# EAGLE library part 645010114822 (library Wire-to-Board (rev18a))
WR-WTB 3.96mm Male Locking Header, 10 Pins=>Code : Con_WTB_3.96_PCB_THT_645010114822 <http://katalog.we-online.de/media/thumbs2/eican/thb_Con_WTB_3.96_PCB_THT_6450xx114822_pf2.jpg> Details see: http://katalog.we-online.de/en/em/WTB_3_96_MALE_LOCKING_HEADER_6450XX114822 Created 2014-06-05, Karrer Zheng 2014 (C) Würth Elektronik
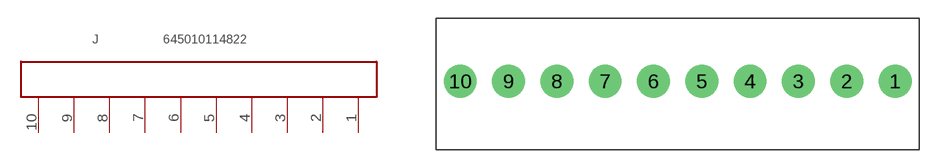
[diagram p2: symbol with the pads of 645010114822; footprint 645010114822]

Designator prefix J

## 645010114822  [645010114822]
1  1  pas
2  2  pas
3  3  pas
4  4  pas
5  5  pas
6  6  pas
7  7  pas
8  8  pas
9  9  pas
10  10  pas

## Footprint 645010114822 (pad centres in mm)
WR-WTB 3.96mm Male Locking Header, 10 Pins
drill 1.8: 1 17.82,0; 2 13.86,0; 3 9.9,0; 4 5.94,0; 5 1.98,0; 6 -1.98,0; 7 -5.94,0; 8 -9.9,0; 9 -13.86,0; 10 -17.82,0